# EAGLE library part ADE-3G+ (library ade_3g)
ADE-3G+
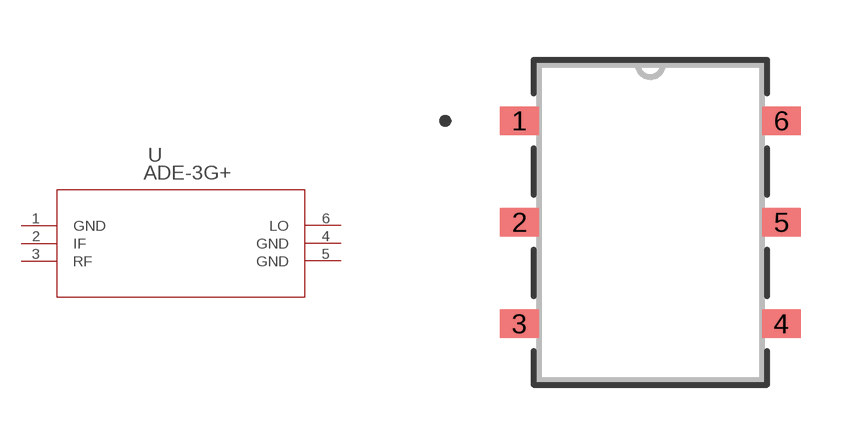
[diagram p1: symbol with the pads of CD542_MNC; footprint CD542_MNC]

Designator prefix -

## ADE-3G+  [CD542_MNC]
1  GND  pas
2  IF  pas
3  RF  pas
4  GND  pas
5  GND  pas
6  LO  pas

## Footprint CD542_MNC (pad centres in mm)
smd 0.965 x 0.711: 1 -3.277,2.54; 2 -3.277,0; 3 -3.277,-2.54; 4 3.277,-2.54; 5 3.277,0; 6 3.277,2.54